# Altium schematic symbol library Mezeq_Electromechanical_Switches.SchLib: 2 symbols
Pins are listed as number, name and electrical type; pins without a type are passive.

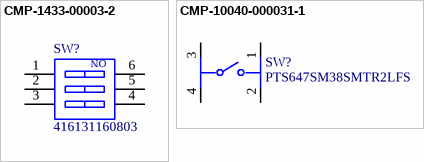
[diagram p0: symbols CMP-1433-00003-2 to CMP-10040-000031-1]

## CMP-1433-00003-2
designator SW?, comment 416131160803
Dip Switch SPST 3 Position Surface Mount Slide (Standard) Actuator 25mA 24VDC; NexarPartId: 22584985; Manufacturer 1: Würth Elektronik; Mechanical Life: 2kcycles; Electrical Life: 1kcycles; Body Material: Polyphenylene; Insulation Resistance: 100MΩ; Number of Positions: 3; Pitch: 1.27mm; Voltage Rating: 24V; Washable: Yes; Mount: Surface Mount; Max Operating Temperature: 85°C; Number of Pins: 3; Min Operating Temperature: -40°C; Termination: Gull Wing; Throw Configuration: SPST; Length: 4.98mm; Current Rating: 25mA; Voltage Rating (DC): 24V; Contact Plating: Gold; RoHS: Compliant; Packaging: Tape and Reel; Manufacturer Part Number 1: 416131160803; Supplier 1: Digikey; Supplier Part Number 1: 732-416131160803CT-ND
footprint 416131160803 (Dip Switch, 0.025A, 24Vdc, 3 Pos, Smd Rohs Compliant: Yes)
pins: 1, 2, 3, 4, 5, 6
text: ON

## CMP-10040-000031-1
designator SW?, comment PTS647SM38SMTR2LFS
Tactile Switch SPST-NO Top Actuated Surface Mount; Manufacturer 1: C&K; Operating Force: 180gf; Throw Configuration: SPST; Mechanical Life: 100000Cycles; Ratings: IP40; Switch Travel: 0.25mm; Switch Function: Off-Mom; Actuator Type: Standard; Illumination Type: Non-Illuminated; Max Operating Temperature: 70°C; Packaging: Cut Tape; Min Operating Temperature: -20°C; Mount: Surface Mount; Termination: Gull Wing; Manufacturer Part Number 1: PTS647SM38SMTR2LFS; Supplier 1: Digikey; Supplier Part Number 1: PTS647SM38SMTR2LFSCT-ND
footprint FP-PTS647SM38SMTR2LFS-MFG
pins: 1, 2, 3, 4